# EAGLE library part KXSD9 (library stan)
Kionix Tri-axis Digital Accelerometer Package: 3x3x0.9mm LGA
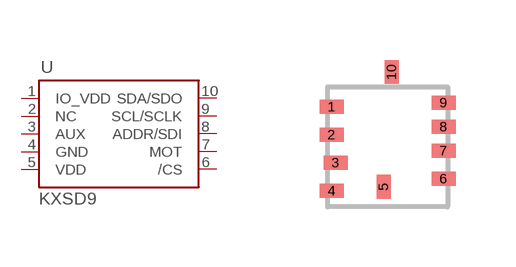
[diagram p5: symbol with the pads of LGA-3X3X0.9; footprint LGA-3X3X0.9]

Designator prefix -

## KXSD9-1026  [LGA-3X3X0.9]
1  IO_VDD
2  NC
3  AUX
4  GND
5  VDD
6  /CS
7  MOT
8  ADDR/SDI
9  SCL/SCLK
10  SDA/SDO

## Footprint LGA-3X3X0.9 (pad centres in mm)
smd 0.6 x 0.35: 1 -1.4,1; 2 -1.4,0.3; 3 -1.3,-0.4; 4 -1.4,-1.1; 6 1.4,-0.8; 7 1.4,-0.1; 8 1.4,0.5; 9 1.4,1.1
smd 0.35 x 0.6: 5 -0.1,-1; 10 0.1,1.87